# Altium integrated library ISD17xx.IntLib: 1 symbol
Pins are listed as number, name and electrical type; pins without a type are passive.

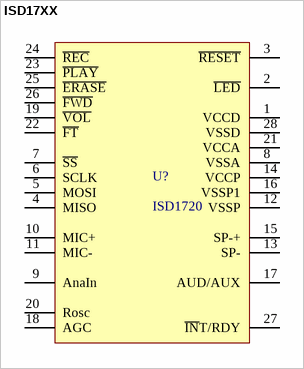
[diagram p0: symbol ISD17XX]

## ISD17XX
designator U?, comment ISD1720
Designed By @Alixahedi
footprint DIP28
pins: 1 VCCD, 2 ~{LED}, 3 ~{RESET}, 4 MISO, 5 MOSI, 6 SCLK, 7 ~{SS}, 8 VSSA, 9 AnaIn, 10 MIC+, 11 MIC-, 12 VSSP, 13 SP-, 14 VCCP, 15 SP-+, 16 VSSP1, 17 AUD/AUX, 18 AGC, 19 ~{VOL}, 20 Rosc, 21 VCCA, 22 ~{FT}, 23 ~{PLAY}, 24 ~{REC}, 25 ~{ERASE}, 26 ~{FWD}, 27 ~{IN}T/RDY, 28 VSSD